# EAGLE library part MAX6369-74 (library stutz-components-library)
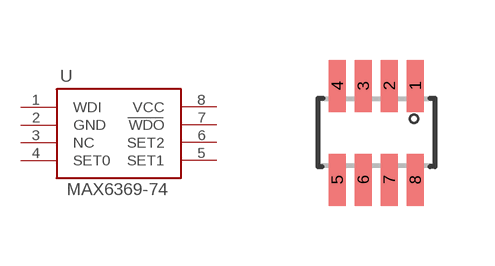
[diagram p25: symbol with the pads of SOT23-8; footprint SOT23-8]

Designator prefix -

## MAX6369-74  [SOT23-8]
1  WDI  in
2  GND  pwr
3  NC  nc
4  SET0  in
5  SET1  in
6  SET2  in
7  WDO  out
8  VCC  pwr

## Footprint SOT23-8 (pad centres in mm)
smd 0.42 x 1.3: 1 0.936,1.08; 2 0.286,1.08; 3 -0.364,1.08; 4 -1.014,1.08; 5 -1.014,-1.27; 6 -0.364,-1.27; 7 0.286,-1.27; 8 0.936,-1.27